# Altium footprint library 464HardwareProject.PcbLib: 24 footprints (part 1 of 2)
Each footprint in its own frame and in the unit in brackets; x right, y up, seen from the top. Pads: shape width x height; smd on the part's side, far side on the other; paste and mask are expansions set on the pad; w line width, h text height; cw(c..) or ccw(c..) is an arc to the next point about the centre after c.
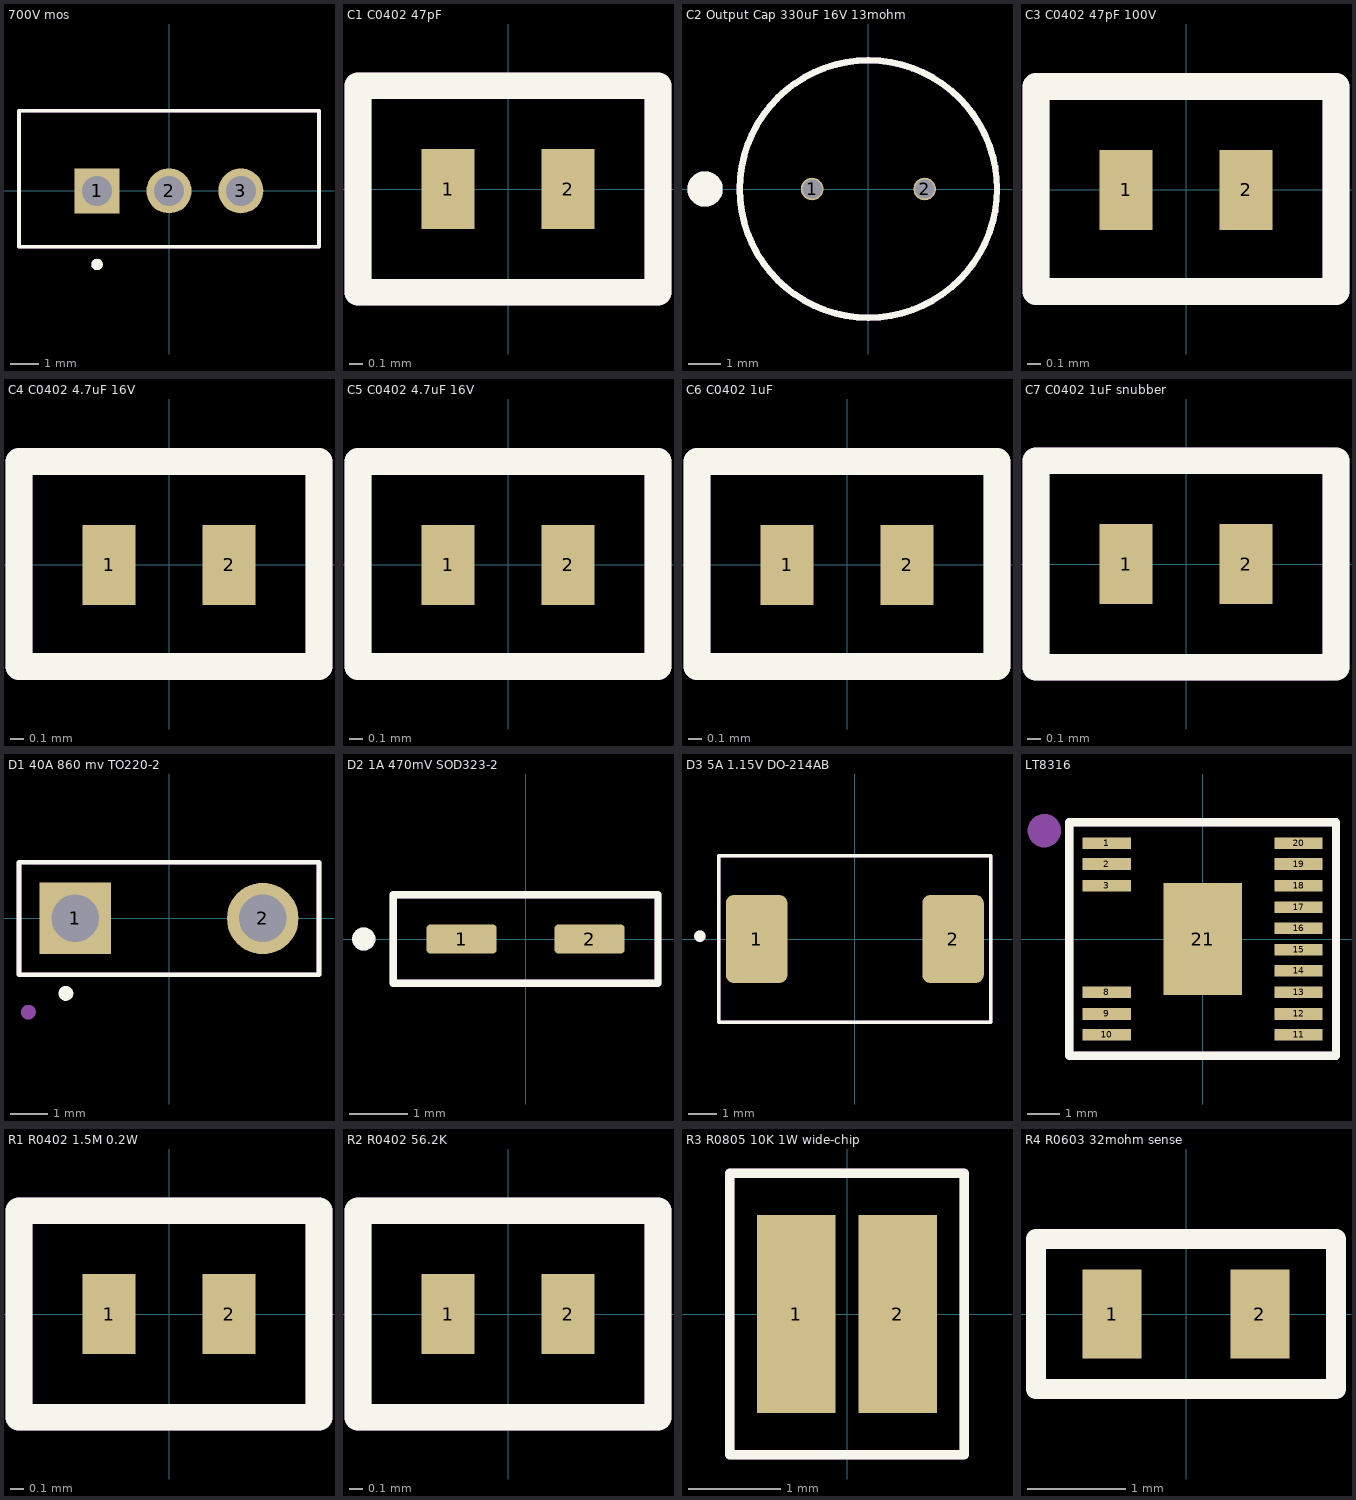
[diagram p0: the footprints below, top view; thin cyan lines are the x and y axes]

## 700V mos [mm]
pads (3):
  rect 1.59x1.59 hole 1.06: 1(-2.54,0)
  round 1.59 hole 1.06: 2(0,0) 3(2.54,0)
Top Overlay:
  circle w0.2: c-2.54,-2.6 r0.1
  lines w0.127: -5.3,-1.967 5.3,-1.967 5.3,2.832 -5.3,2.832 -5.3,-1.967
Mechanical 13:
  circle w0.2: c-2.54,-2.6 r0.1
  lines w0.127: -5.3,-1.967 5.3,-1.967 5.3,2.832 -5.3,2.832 -5.3,-1.967
  text "'.Designator'" at -4.78,0.887 h1
3D body "User Library-2STP535FP Transistors Darlingtons PNP TO-220FP.STEP": height 20.48, standoff -9.36, extent -5.09,-6.18 5.09,5.129

## C1 C0402 47pF [mm]
pads (2):
  rect 0.4x0.6 smd: 1(-0.45,0) 2(0.45,0)
Top Overlay:
  lines w0.2: -1.125,-0.775 1.125,-0.775 1.125,0.775 -1.125,0.775 -1.125,-0.775
Mechanical 13:
  lines w0.2: -1.125,-0.775 -1.125,0.775 1.125,0.775 1.125,-0.775 -1.125,-0.775
  text "'.Designator'" at -0.662,-0.054 h0.3
3D body "GRM155R71E752KA01D.STEP": height 0.46, standoff 0.01, extent -0.5,-0.25 0.5,0.25

## C2 Output Cap 330uF 16V 13mohm [mm]
pads (2):
  round 0.7 hole 0.6: 1(-1.75,0) 2(1.75,0)
Top Overlay:
  circle w0.2: c0,0 r4
  circle w0.6: c-5.08,0 r0.25
Mechanical 13:
  circle w0.2: c0,0 r4
  circle w0.6: c-5.08,0 r0.25
  text "'.Designator'" at -2.594,-0.041 h0.8
3D body "10SEPC270MD+S.STEP": height 6.91, standoff -19.09, extent -4,-4 4,4

## C3 C0402 47pF 100V [mm]
pads (2):
  rect 0.4x0.6 smd: 1(-0.45,0) 2(0.45,0)
Top Overlay:
  lines w0.2: -1.125,-0.762 1.125,-0.762 1.125,0.775 -1.125,0.775 -1.125,-0.762
Mechanical 13:
  lines w0.2: -1.125,-0.762 -1.125,0.775 1.125,0.775 1.125,-0.762 -1.125,-0.762
  text "'.Designator'" at -0.662,-0.054 h0.3
3D body "GRM155R71E752KA01D.STEP": height 0.46, standoff 0.01, extent -0.5,-0.25 0.5,0.25

## C4 C0402 4.7uF 16V [mm]
pads (2):
  rect 0.4x0.6 smd: 1(-0.45,0) 2(0.45,0)
Top Overlay:
  lines w0.2: -1.125,-0.762 -1.125,0.775 1.125,0.775 1.125,-0.762 -1.125,-0.762
Mechanical 13:
  lines w0.2: -1.125,-0.762 1.125,-0.762 1.125,0.775 -1.125,0.775 -1.125,-0.762
  text "'.Designator'" at -0.662,-0.054 h0.3
3D body "GRM155R71E752KA01D.STEP": height 0.46, standoff 0.01, extent -0.5,-0.25 0.5,0.25

## C5 C0402 4.7uF 16V [mm]
pads (2):
  rect 0.4x0.6 smd: 1(-0.45,0) 2(0.45,0)
Top Overlay:
  lines w0.2: -1.125,-0.762 -1.125,0.775 1.125,0.775 1.125,-0.762 -1.125,-0.762
Mechanical 13:
  lines w0.2: -1.125,-0.762 1.125,-0.762 1.125,0.775 -1.125,0.775 -1.125,-0.762
  text "'.Designator'" at -0.662,-0.054 h0.3
3D body "GRM155R71E752KA01D.STEP": height 0.46, standoff 0.01, extent -0.5,-0.25 0.5,0.25

## C6 C0402 1uF [mm]
pads (2):
  rect 0.4x0.6 smd: 1(-0.45,0) 2(0.45,0)
Top Overlay:
  lines w0.2: -1.125,-0.762 -1.125,0.775 1.125,0.775 1.125,-0.762 -1.125,-0.762
Mechanical 13:
  lines w0.2: -1.125,-0.762 1.125,-0.762 1.125,0.775 -1.125,0.775 -1.125,-0.762
  text "'.Designator'" at -0.662,-0.054 h0.3
3D body "GRM155R71E752KA01D.STEP": height 0.46, standoff 0.01, extent -0.5,-0.25 0.5,0.25

## C7 C0402 1uF snubber [mm]
pads (2):
  rect 0.4x0.6 smd: 1(-0.45,0) 2(0.45,0)
Top Overlay:
  lines w0.2: -1.125,-0.775 1.125,-0.775 1.125,0.775 -1.125,0.775 -1.125,-0.775
Mechanical 13:
  lines w0.2: -1.125,-0.775 -1.125,0.775 1.125,0.775 1.125,-0.775 -1.125,-0.775
  text "'.Designator'" at -0.662,-0.054 h0.3
3D body "GRM155R71E752KA01D.STEP": height 0.46, standoff 0.01, extent -0.5,-0.25 0.5,0.25

## D1 40A 860 mv TO220-2 [mm]
pads (2):
  rect 1.94x1.94 hole 1.29: 1(-2.54,0)
  round 1.94 hole 1.29: 2(2.54,0)
Top Overlay:
  circle w0.2: c-2.794,-2.032 r0.1
  lines w0.127: -4.064,-1.524 4.064,-1.524 4.064,1.524 -4.064,1.524 -4.064,-1.524
Mechanical 13:
  circle w0.2: c-3.81,-2.54 r0.1
  lines w0.127: -4.064,-1.524 -4.064,1.524 4.064,1.524 4.064,-1.524 -4.064,-1.524
3D body "User Library-TO 220-2.STEP": height 15.39, standoff -12.99, extent -4.826,-2.214 4.826,2.286

## D2 1A 470mV SOD323-2 [mm]
pads (2):
  rrect25% 1.21x0.5 smd: 1(-1.105,0) 2(1.105,0)
Top Overlay:
  circle w0.2: c-2.794,0 r0.1
  lines w0.127: -2.286,-0.762 2.286,-0.762 2.286,0.762 -2.286,0.762 -2.286,-0.762
Mechanical 13:
  circle w0.2: c-2.794,0 r0.1
  lines w0.127: -2.286,-0.762 -2.286,0.762 2.286,0.762 2.286,-0.762 -2.286,-0.762
  text "'.Designator'" at -2.086,-0.329 h0.7
3D body "PDZ10BF.STEP": height 1.06, standoff -0.04, extent -1.25,-0.625 1.25,0.625

## D3 5A 1.15V DO-214AB [mm]
pads (2):
  rrect25% 2.18x3.12 smd: 1(-3.485,0) 2(3.485,0)
Top Overlay:
  circle w0.2: c-5.5,0.1 r0.1
  lines w0.127: -4.826,-2.953 -1.714,-2.953 1.714,-2.953 4.826,-2.953 4.826,2.953 -4.826,2.953 -4.826,-2.953
Mechanical 13:
  circle w0.2: c-5.5,0.1 r0.1
  lines w0.127: -4.826,-2.953 -1.714,-2.953 1.714,-2.953 4.826,-2.953 4.826,2.953 -4.826,2.953 -4.826,-2.953
  text "'.Designator'" at -2.086,-0.329 h0.7
3D body "SMCJ70CA--3DModel-STEP-56544.STEP": height 2.63, standoff 0.01, extent -3.969,-2.953 3.969,2.953

## LT8316 [mil]
pads (17):
  rect 58x14 smd: 1(-115,115) 2(-115,90) 3(-115,64) 8(-115,-64) 9(-115,-90) 10(-115,-115) 11(115,-115) 12(115,-90) 13(115,-64) 14(115,-38) 15(115,-13) 16(115,13) 17(115,38) 18(115,64) 19(115,90) 20(115,115)
  rect 94x134 smd: 21(0,0)
Top Overlay:
  lines w10: -160,-140 -160,140 160,140 160,-140 -160,-140
Mechanical 13:
  circle w20: c-190,130 r10
  lines w10: -160,-140 -160,140 160,140 160,-140 -160,-140
  text "'.Designator'" at -138.19,74.93 h39.37
3D body "LT8316EFE#PBF.STEP": height 41.84, standoff -5.41, extent -125.98,-127.95 125.99,127.95

## R1 R0402 1.5M 0.2W [mm]
pads (2):
  rect 0.4x0.6 smd: 1(-0.45,0) 2(0.45,0)
Top Overlay:
  lines w0.2: -1.125,-0.775 -1.125,0.775 1.125,0.775 1.125,-0.775 -1.125,-0.775
Mechanical 13:
  lines w0.2: -1.125,-0.775 1.125,-0.775 1.125,0.775 -1.125,0.775 -1.125,-0.775
  text "'.Designator'" at -0.699,0.119 h0.2
3D body "RN73C1E57K6BTDF.STEP": height 0.36, standoff 0.01, extent -0.5,-0.25 0.5,0.25

## R2 R0402 56.2K [mm]
pads (2):
  rect 0.4x0.6 smd: 1(-0.45,0) 2(0.45,0)
Top Overlay:
  lines w0.2: -1.125,-0.775 1.125,-0.775 1.125,0.775 -1.125,0.775 -1.125,-0.775
Mechanical 13:
  lines w0.2: -1.125,-0.775 1.125,-0.775 1.125,0.775 -1.125,0.775 -1.125,-0.775
  text "'.Designator'" at -0.699,0.119 h0.2
3D body "RN73C1E57K6BTDF.STEP": height 0.35, standoff 0, extent -0.5,-0.25 0.5,0.25

## R3 R0805 10K 1W wide-chip [mm] "Chip Resistor, 2-Leads, Body 1,25x2,00mm, IPC Medium Density"
height 0.65
pads (2):
  rect 0.85x2.15 smd: 1(-0.55,0) 2(0.55,0)
Top Overlay:
  lines w0.1: -1.27,-1.524 -1.27,1.524 1.27,1.524 1.27,-1.524 -1.27,-1.524
Mechanical 13:
  lines w0.1: -1.27,-1.524 -1.27,1.524 1.27,1.524 1.27,-1.524 -1.27,-1.524
  text "'.Designator'" at -0.914,0.737 h0.38
3D body "R0805 R3 10K 1W wide-chip.step": height 0.65, standoff 0, extent -0.7,-1.075 0.7,1.075

## R4 R0603 32mohm sense [mm]
pads (2):
  rect 0.6x0.9 smd: 1(-0.75,0) 2(0.75,0)
Top Overlay:
  lines w0.2: -1.524,-0.762 1.524,-0.762 1.524,0.762 -1.524,0.762 -1.524,-0.762
Mechanical 13:
  lines w0.2: -1.524,-0.762 1.524,-0.762 1.524,0.762 -1.524,0.762 -1.524,-0.762
  text "'.Designator'" at -0.66,-0.025 h0.38
3D body "CRGCQ0603J4R7.STEP": height 0.56, standoff 0.01, extent -0.8,-0.4 0.8,0.4